# Altium schematic symbol library WCAP-ATUL.SchLib: 122 symbols (part 2 of 3)
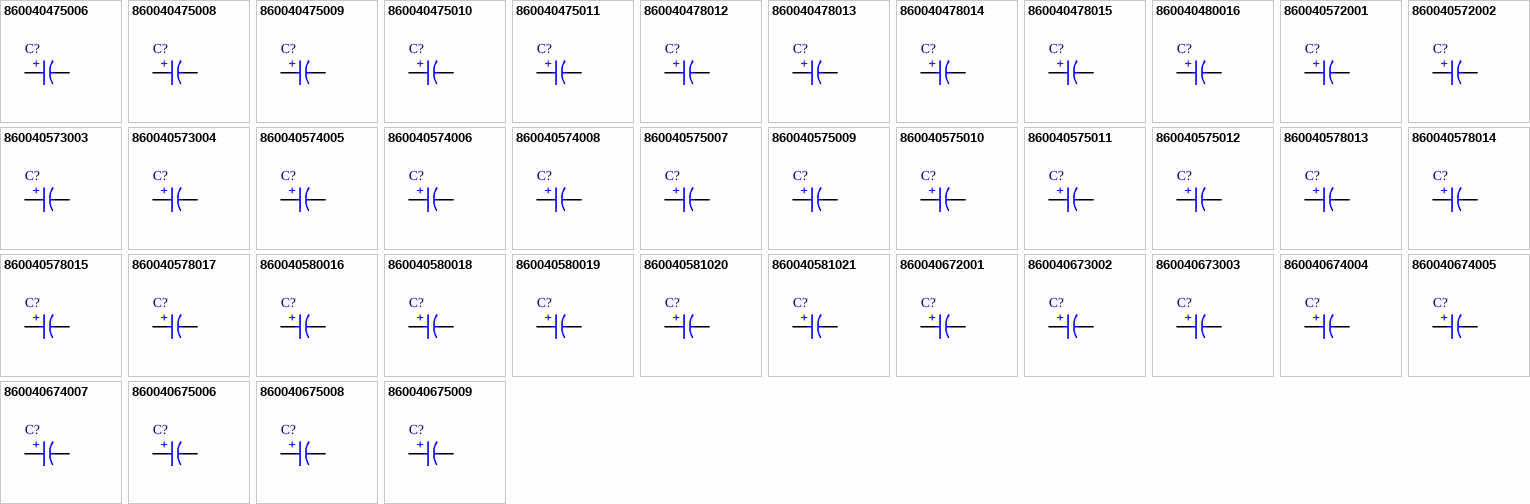
[diagram p4: symbols 860040475006 to 860040675009]

## 860040574005
designator C?, comment 150µF  (value not drawn)
WCAP-ATUL Aluminum Electrolytic Capacitor, Radial, THT, 8mm x 11.5mm, 150µF, 35V; Manufacturer Part Number: 860040574005; Manufacturer: Wurth Elektronik; Capacitance Tolerance: 20%; Dissipation Factor: 12%; Endurance: 7000h; Leakage Current: 52.5µA; Ripple Current: 680mA; Category: Aluminum Electrolytic Capacitors; Match Code: WCAP-ATUL; ComponentLink1Description: Website Link; ComponentLink1URL: https://www.we-online.com/redexpert/article/860040574005?ad; ComponentLink2Description: Datasheet Link; ComponentLink2URL: https://www.we-online.com/redexpert/spec/860040574005?ad; Mount: Through Hole; Min Operating Temperature: -40°C; Max Operating Temperature: 105°C; Packaging: Ammo Pack; Height: 11.5mm; Diameter: 8mm; Capacitance: 150µF; Rated Voltage (DC): 35V
footprint WCAP-ATUL_D8H11.5
simulation model 860040574005_150uF
pins: 1 P, 2 N
text: +

## 860040574006
designator C?, comment 220µF  (value not drawn)
WCAP-ATUL Aluminum Electrolytic Capacitor, Radial, THT, 8mm x 16mm, 220µF, 35V; Manufacturer Part Number: 860040574006; Manufacturer: Wurth Elektronik; Capacitance Tolerance: 20%; Dissipation Factor: 12%; Endurance: 7000h; Leakage Current: 77µA; Ripple Current: 1000mA; Category: Aluminum Electrolytic Capacitors; Match Code: WCAP-ATUL; ComponentLink1Description: Website Link; ComponentLink1URL: https://www.we-online.com/redexpert/article/860040574006?ad; ComponentLink2Description: Datasheet Link; ComponentLink2URL: https://www.we-online.com/redexpert/spec/860040574006?ad; Mount: Through Hole; Min Operating Temperature: -40°C; Max Operating Temperature: 105°C; Packaging: Ammo Pack; Height: 16mm; Diameter: 8mm; Capacitance: 220µF; Rated Voltage (DC): 35V
footprint WCAP-ATUL_D8H16
simulation model 860040574006_220uF
pins: 1 P, 2 N
text: +

## 860040574008
designator C?, comment 270µF  (value not drawn)
WCAP-ATUL Aluminum Electrolytic Capacitor, Radial, THT, 8mm x 20mm, 270µF, 35V; Manufacturer Part Number: 860040574008; Manufacturer: Wurth Elektronik; Capacitance Tolerance: 20%; Dissipation Factor: 12%; Endurance: 7000h; Leakage Current: 94.5µA; Ripple Current: 1180mA; Category: Aluminum Electrolytic Capacitors; Match Code: WCAP-ATUL; ComponentLink1Description: Website Link; ComponentLink1URL: https://www.we-online.com/redexpert/article/860040574008?ad; ComponentLink2Description: Datasheet Link; ComponentLink2URL: https://www.we-online.com/redexpert/spec/860040574008?ad; Mount: Through Hole; Min Operating Temperature: -40°C; Max Operating Temperature: 105°C; Packaging: Ammo Pack; Height: 20mm; Diameter: 8mm; Capacitance: 270µF; Rated Voltage (DC): 35V
footprint WCAP-ATUL_D8H20
simulation model 860040574008_270uF
pins: 1 P, 2 N
text: +

## 860040575007
designator C?, comment 220µF  (value not drawn)
WCAP-ATUL Aluminum Electrolytic Capacitor, Radial, THT, 10mm x 12.5mm, 220µF, 35V; Manufacturer Part Number: 860040575007; Manufacturer: Wurth Elektronik; Capacitance Tolerance: 20%; Dissipation Factor: 12%; Endurance: 7000h; Leakage Current: 77µA; Ripple Current: 1060mA; Category: Aluminum Electrolytic Capacitors; Match Code: WCAP-ATUL; ComponentLink1Description: Website Link; ComponentLink1URL: https://www.we-online.com/redexpert/article/860040575007?ad; ComponentLink2Description: Datasheet Link; ComponentLink2URL: https://www.we-online.com/redexpert/spec/860040575007?ad; Mount: Through Hole; Min Operating Temperature: -40°C; Max Operating Temperature: 105°C; Packaging: Ammo Pack; Height: 12.5mm; Diameter: 10mm; Capacitance: 220µF; Rated Voltage (DC): 35V
footprint WCAP-ATUL_D10H12.5
simulation model 860040575007_220uF
pins: 1 P, 2 N
text: +

## 860040575009
designator C?, comment 330µF  (value not drawn)
WCAP-ATUL Aluminum Electrolytic Capacitor, Radial, THT, 10mm x 16mm, 330µF, 35V; Manufacturer Part Number: 860040575009; Manufacturer: Wurth Elektronik; Capacitance Tolerance: 20%; Dissipation Factor: 12%; Endurance: 7000h; Leakage Current: 115.5µA; Ripple Current: 1380mA; Category: Aluminum Electrolytic Capacitors; Match Code: WCAP-ATUL; ComponentLink1Description: Website Link; ComponentLink1URL: https://www.we-online.com/redexpert/article/860040575009?ad; ComponentLink2Description: Datasheet Link; ComponentLink2URL: https://www.we-online.com/redexpert/spec/860040575009?ad; Mount: Through Hole; Min Operating Temperature: -40°C; Max Operating Temperature: 105°C; Packaging: Ammo Pack; Height: 16mm; Diameter: 10mm; Capacitance: 330µF; Rated Voltage (DC): 35V
footprint WCAP-ATUL_D10H16
simulation model 860040575009_330uF
pins: 1 P, 2 N
text: +

## 860040575010
designator C?, comment 470µF  (value not drawn)
WCAP-ATUL Aluminum Electrolytic Capacitor, Radial, THT, 10mm x 20mm, 470µF, 35V; Manufacturer Part Number: 860040575010; Manufacturer: Wurth Elektronik; Capacitance Tolerance: 20%; Dissipation Factor: 12%; Endurance: 7000h; Leakage Current: 164.5µA; Ripple Current: 1800mA; Category: Aluminum Electrolytic Capacitors; Match Code: WCAP-ATUL; ComponentLink1Description: Website Link; ComponentLink1URL: https://www.we-online.com/redexpert/article/860040575010?ad; ComponentLink2Description: Datasheet Link; ComponentLink2URL: https://www.we-online.com/redexpert/spec/860040575010?ad; Mount: Through Hole; Min Operating Temperature: -40°C; Max Operating Temperature: 105°C; Packaging: Ammo Pack; Height: 20mm; Diameter: 10mm; Capacitance: 470µF; Rated Voltage (DC): 35V
footprint WCAP-ATUL_D10H20
simulation model 860040575010_470uF
pins: 1 P, 2 N
text: +

## 860040575011
designator C?, comment 560µF  (value not drawn)
WCAP-ATUL Aluminum Electrolytic Capacitor, Radial, THT, 10mm x 25mm, 560µF, 35V; Manufacturer Part Number: 860040575011; Manufacturer: Wurth Elektronik; Capacitance Tolerance: 20%; Dissipation Factor: 12%; Endurance: 7000h; Leakage Current: 196µA; Ripple Current: 1900mA; Category: Aluminum Electrolytic Capacitors; Match Code: WCAP-ATUL; ComponentLink1Description: Website Link; ComponentLink1URL: https://www.we-online.com/redexpert/article/860040575011?ad; ComponentLink2Description: Datasheet Link; ComponentLink2URL: https://www.we-online.com/redexpert/spec/860040575011?ad; Mount: Through Hole; Min Operating Temperature: -40°C; Max Operating Temperature: 105°C; Packaging: Ammo Pack; Height: 25mm; Diameter: 10mm; Capacitance: 560µF; Rated Voltage (DC): 35V
footprint WCAP-ATUL_D10H25
simulation model 860040575011_560uF
pins: 1 P, 2 N
text: +

## 860040575012
designator C?, comment 680µF  (value not drawn)
WCAP-ATUL Aluminum Electrolytic Capacitor, Radial, THT, 10mm x 30mm, 680µF, 35V; Manufacturer Part Number: 860040575012; Manufacturer: Wurth Elektronik; Capacitance Tolerance: 20%; Dissipation Factor: 12%; Endurance: 7000h; Leakage Current: 238µA; Ripple Current: 2000mA; Category: Aluminum Electrolytic Capacitors; Match Code: WCAP-ATUL; ComponentLink1Description: Website Link; ComponentLink1URL: https://www.we-online.com/redexpert/article/860040575012?ad; ComponentLink2Description: Datasheet Link; ComponentLink2URL: https://www.we-online.com/redexpert/spec/860040575012?ad; Mount: Through Hole; Min Operating Temperature: -40°C; Max Operating Temperature: 105°C; Packaging: Ammo Pack; Height: 30mm; Diameter: 10mm; Capacitance: 680µF; Rated Voltage (DC): 35V
footprint WCAP-ATUL_D10H30
simulation model 860040575012_680uF
pins: 1 P, 2 N
text: +

## 860040578013
designator C?, comment 680µF  (value not drawn)
WCAP-ATUL Aluminum Electrolytic Capacitor, Radial, THT, 13mm x 20mm, 680µF, 35V; Manufacturer Part Number: 860040578013; Manufacturer: Wurth Elektronik; Capacitance Tolerance: 20%; Dissipation Factor: 12%; Endurance: 10000h; Leakage Current: 238µA; Ripple Current: 2100mA; Category: Aluminum Electrolytic Capacitors; Match Code: WCAP-ATUL; ComponentLink1Description: Website Link; ComponentLink1URL: https://www.we-online.com/redexpert/article/860040578013?ad; ComponentLink2Description: Datasheet Link; ComponentLink2URL: https://www.we-online.com/redexpert/spec/860040578013?ad; Mount: Through Hole; Min Operating Temperature: -40°C; Max Operating Temperature: 105°C; Packaging: Ammo Pack; Height: 20mm; Diameter: 13mm; Capacitance: 680µF; Rated Voltage (DC): 35V
footprint WCAP-ATUL_D13H20
simulation model 860040578013_680uF
pins: 1 P, 2 N
text: +

## 860040578014
designator C?, comment 1000µF  (value not drawn)
WCAP-ATUL Aluminum Electrolytic Capacitor, Radial, THT, 13mm x 25mm, 1000µF, 35V; Manufacturer Part Number: 860040578014; Manufacturer: Wurth Elektronik; Capacitance Tolerance: 20%; Dissipation Factor: 12%; Endurance: 10000h; Leakage Current: 350µA; Ripple Current: 2400mA; Category: Aluminum Electrolytic Capacitors; Match Code: WCAP-ATUL; ComponentLink1Description: Website Link; ComponentLink1URL: https://www.we-online.com/redexpert/article/860040578014?ad; ComponentLink2Description: Datasheet Link; ComponentLink2URL: https://www.we-online.com/redexpert/spec/860040578014?ad; Mount: Through Hole; Min Operating Temperature: -40°C; Max Operating Temperature: 105°C; Packaging: Ammo Pack; Height: 25mm; Diameter: 13mm; Capacitance: 1000µF; Rated Voltage (DC): 35V
footprint WCAP-ATUL_D13H25
simulation model 860040578014_1mF
pins: 1 P, 2 N
text: +

## 860040578015
designator C?, comment 1200µF  (value not drawn)
WCAP-ATUL Aluminum Electrolytic Capacitor, Radial, THT, 13mm x 30mm, 1200µF, 35V; Manufacturer Part Number: 860040578015; Manufacturer: Wurth Elektronik; Capacitance Tolerance: 20%; Dissipation Factor: 12%; Endurance: 10000h; Leakage Current: 420µA; Ripple Current: 2800mA; Category: Aluminum Electrolytic Capacitors; Match Code: WCAP-ATUL; ComponentLink1Description: Website Link; ComponentLink1URL: https://www.we-online.com/redexpert/article/860040578015?ad; ComponentLink2Description: Datasheet Link; ComponentLink2URL: https://www.we-online.com/redexpert/spec/860040578015?ad; Mount: Through Hole; Min Operating Temperature: -40°C; Max Operating Temperature: 105°C; Packaging: Ammo Pack; Height: 30mm; Diameter: 13mm; Capacitance: 1200µF; Rated Voltage (DC): 35V
footprint WCAP-ATUL_D13H30
simulation model 860040578015_1.2mF
pins: 1 P, 2 N
text: +

## 860040578017
designator C?, comment 1500µF  (value not drawn)
WCAP-ATUL Aluminum Electrolytic Capacitor, Radial, THT, 13mm x 35mm, 1500µF, 35V; Manufacturer Part Number: 860040578017; Manufacturer: Wurth Elektronik; Capacitance Tolerance: 20%; Dissipation Factor: 12%; Endurance: 10000h; Leakage Current: 525µA; Ripple Current: 3000mA; Category: Aluminum Electrolytic Capacitors; Match Code: WCAP-ATUL; ComponentLink1Description: Website Link; ComponentLink1URL: https://www.we-online.com/redexpert/article/860040578017?ad; ComponentLink2Description: Datasheet Link; ComponentLink2URL: https://www.we-online.com/redexpert/spec/860040578017?ad; Mount: Through Hole; Min Operating Temperature: -40°C; Max Operating Temperature: 105°C; Packaging: Ammo Pack; Height: 35mm; Diameter: 13mm; Capacitance: 1500µF; Rated Voltage (DC): 35V
footprint WCAP-ATUL_D13H35
simulation model 860040578017_1.5mF
pins: 1 P, 2 N
text: +

## 860040580016
designator C?, comment 1200µF  (value not drawn)
WCAP-ATUL Aluminum Electrolytic Capacitor, Radial, THT, 16mm x 21mm, 1200µF, 35V; Manufacturer Part Number: 860040580016; Manufacturer: Wurth Elektronik; Capacitance Tolerance: 20%; Dissipation Factor: 12%; Endurance: 10000h; Leakage Current: 420µA; Ripple Current: 2800mA; Category: Aluminum Electrolytic Capacitors; Match Code: WCAP-ATUL; ComponentLink1Description: Website Link; ComponentLink1URL: https://www.we-online.com/redexpert/article/860040580016?ad; ComponentLink2Description: Datasheet Link; ComponentLink2URL: https://www.we-online.com/redexpert/spec/860040580016?ad; Mount: Through Hole; Min Operating Temperature: -40°C; Max Operating Temperature: 105°C; Packaging: Ammo Pack; Height: 21mm; Diameter: 16mm; Capacitance: 1200µF; Rated Voltage (DC): 35V
footprint WCAP-ATUL_D16H21
simulation model 860040580016_1.2mF
pins: 1 P, 2 N
text: +

## 860040580018
designator C?, comment 1800µF  (value not drawn)
WCAP-ATUL Aluminum Electrolytic Capacitor, Radial, THT, 16mm x 25mm, 1800µF, 35V; Manufacturer Part Number: 860040580018; Manufacturer: Wurth Elektronik; Capacitance Tolerance: 20%; Dissipation Factor: 12%; Endurance: 10000h; Leakage Current: 630µA; Ripple Current: 2800mA; Category: Aluminum Electrolytic Capacitors; Match Code: WCAP-ATUL; ComponentLink1Description: Website Link; ComponentLink1URL: https://www.we-online.com/redexpert/article/860040580018?ad; ComponentLink2Description: Datasheet Link; ComponentLink2URL: https://www.we-online.com/redexpert/spec/860040580018?ad; Mount: Through Hole; Min Operating Temperature: -40°C; Max Operating Temperature: 105°C; Packaging: Ammo Pack; Height: 25mm; Diameter: 16mm; Capacitance: 1800µF; Rated Voltage (DC): 35V
footprint WCAP-ATUL_D16H25
simulation model 860040580018_1.8mF
pins: 1 P, 2 N
text: +

## 860040580019
designator C?, comment 2700µF  (value not drawn)
WCAP-ATUL Aluminum Electrolytic Capacitor, Radial, THT, 16mm x 35.5mm, 2700µF, 35V; Manufacturer Part Number: 860040580019; Manufacturer: Wurth Elektronik; Capacitance Tolerance: 20%; Dissipation Factor: 12%; Endurance: 10000h; Leakage Current: 945µA; Ripple Current: 3500mA; Category: Aluminum Electrolytic Capacitors; Match Code: WCAP-ATUL; ComponentLink1Description: Website Link; ComponentLink1URL: https://www.we-online.com/redexpert/article/860040580019?ad; ComponentLink2Description: Datasheet Link; ComponentLink2URL: https://www.we-online.com/redexpert/spec/860040580019?ad; Mount: Through Hole; Min Operating Temperature: -40°C; Max Operating Temperature: 105°C; Packaging: Ammo Pack; Height: 35.5mm; Diameter: 16mm; Capacitance: 2700µF; Rated Voltage (DC): 35V
footprint WCAP-ATUL_D16H35.5
simulation model 860040580019_2.7mF
pins: 1 P, 2 N
text: +

## 860040581020
designator C?, comment 2700µF  (value not drawn)
WCAP-ATUL Aluminum Electrolytic Capacitor, Radial, THT, 18mm x 31.5mm, 2700µF, 35V; Manufacturer Part Number: 860040581020; Manufacturer: Wurth Elektronik; Capacitance Tolerance: 20%; Dissipation Factor: 12%; Endurance: 10000h; Leakage Current: 945µA; Ripple Current: 3850mA; Category: Aluminum Electrolytic Capacitors; Match Code: WCAP-ATUL; ComponentLink1Description: Website Link; ComponentLink1URL: https://www.we-online.com/redexpert/article/860040581020?ad; ComponentLink2Description: Datasheet Link; ComponentLink2URL: https://www.we-online.com/redexpert/spec/860040581020?ad; Mount: Through Hole; Min Operating Temperature: -40°C; Max Operating Temperature: 105°C; Packaging: Ammo Pack; Height: 31.5mm; Diameter: 18mm; Capacitance: 2700µF; Rated Voltage (DC): 35V
footprint WCAP-ATUL_D18H31.5
simulation model 860040581020_2.7mF
pins: 1 P, 2 N
text: +

## 860040581021
designator C?, comment 4700µF  (value not drawn)
WCAP-ATUL Aluminum Electrolytic Capacitor, Radial, THT, 18mm x 41mm, 4700µF, 35V; Manufacturer Part Number: 860040581021; Manufacturer: Wurth Elektronik; Capacitance Tolerance: 20%; Dissipation Factor: 18%; Endurance: 10000h; Leakage Current: 1645µA; Ripple Current: 5350mA; Category: Aluminum Electrolytic Capacitors; Match Code: WCAP-ATUL; ComponentLink1Description: Website Link; ComponentLink1URL: https://www.we-online.com/redexpert/article/860040581021?ad; ComponentLink2Description: Datasheet Link; ComponentLink2URL: https://www.we-online.com/redexpert/spec/860040581021?ad; Mount: Through Hole; Min Operating Temperature: -40°C; Max Operating Temperature: 105°C; Packaging: Ammo Pack; Height: 41mm; Diameter: 18mm; Capacitance: 4700µF; Rated Voltage (DC): 35V
footprint WCAP-ATUL_D18H41
simulation model 860040581021_4.7mF
pins: 1 P, 2 N
text: +

## 860040672001
designator C?, comment 22µF  (value not drawn)
WCAP-ATUL Aluminum Electrolytic Capacitor, Radial, THT, 5mm x 11mm, 22µF, 50V; Manufacturer Part Number: 860040672001; Manufacturer: Wurth Elektronik; Capacitance Tolerance: 20%; Dissipation Factor: 10%; Endurance: 5000h; Leakage Current: 11µA; Ripple Current: 220mA; Category: Aluminum Electrolytic Capacitors; Match Code: WCAP-ATUL; ComponentLink1Description: Website Link; ComponentLink1URL: https://www.we-online.com/redexpert/article/860040672001?ad; ComponentLink2Description: Datasheet Link; ComponentLink2URL: https://www.we-online.com/redexpert/spec/860040672001?ad; Mount: Through Hole; Min Operating Temperature: -40°C; Max Operating Temperature: 105°C; Packaging: Ammo Pack; Height: 11mm; Diameter: 5mm; Capacitance: 22µF; Rated Voltage (DC): 50V
footprint WCAP-ATUL_D5H11
simulation model 860040672001_22uF
pins: 1 P, 2 N
text: +

## 860040673002
designator C?, comment 47µF  (value not drawn)
WCAP-ATUL Aluminum Electrolytic Capacitor, Radial, THT, 6.3mm x 11mm, 47µF, 50V; Manufacturer Part Number: 860040673002; Manufacturer: Wurth Elektronik; Capacitance Tolerance: 20%; Dissipation Factor: 10%; Endurance: 5000h; Leakage Current: 23.5µA; Ripple Current: 260mA; Category: Aluminum Electrolytic Capacitors; Match Code: WCAP-ATUL; ComponentLink1Description: Website Link; ComponentLink1URL: https://www.we-online.com/redexpert/article/860040673002?ad; ComponentLink2Description: Datasheet Link; ComponentLink2URL: https://www.we-online.com/redexpert/spec/860040673002?ad; Mount: Through Hole; Min Operating Temperature: -40°C; Max Operating Temperature: 105°C; Packaging: Ammo Pack; Height: 11mm; Diameter: 6.3mm; Capacitance: 47µF; Rated Voltage (DC): 50V
footprint WCAP-ATUL_D6.3H11
simulation model 860040673002_47uF
pins: 1 P, 2 N
text: +

## 860040673003
designator C?, comment 56µF  (value not drawn)
WCAP-ATUL Aluminum Electrolytic Capacitor, Radial, THT, 6.3mm x 11mm, 56µF, 50V; Manufacturer Part Number: 860040673003; Manufacturer: Wurth Elektronik; Capacitance Tolerance: 20%; Dissipation Factor: 10%; Endurance: 5000h; Leakage Current: 28µA; Ripple Current: 300mA; Category: Aluminum Electrolytic Capacitors; Match Code: WCAP-ATUL; ComponentLink1Description: Website Link; ComponentLink1URL: https://www.we-online.com/redexpert/article/860040673003?ad; ComponentLink2Description: Datasheet Link; ComponentLink2URL: https://www.we-online.com/redexpert/spec/860040673003?ad; Mount: Through Hole; Min Operating Temperature: -40°C; Max Operating Temperature: 105°C; Packaging: Ammo Pack; Height: 11mm; Diameter: 6.3mm; Capacitance: 56µF; Rated Voltage (DC): 50V
footprint WCAP-ATUL_D6.3H11
simulation model 860040673003_56uF
pins: 1 P, 2 N
text: +

## 860040674004
designator C?, comment 100µF  (value not drawn)
WCAP-ATUL Aluminum Electrolytic Capacitor, Radial, THT, 8mm x 11.5mm, 100µF, 50V; Manufacturer Part Number: 860040674004; Manufacturer: Wurth Elektronik; Capacitance Tolerance: 20%; Dissipation Factor: 10%; Endurance: 7000h; Leakage Current: 50µA; Ripple Current: 680mA; Category: Aluminum Electrolytic Capacitors; Match Code: WCAP-ATUL; ComponentLink1Description: Website Link; ComponentLink1URL: https://www.we-online.com/redexpert/article/860040674004?ad; ComponentLink2Description: Datasheet Link; ComponentLink2URL: https://www.we-online.com/redexpert/spec/860040674004?ad; Mount: Through Hole; Min Operating Temperature: -40°C; Max Operating Temperature: 105°C; Packaging: Ammo Pack; Height: 11.5mm; Diameter: 8mm; Capacitance: 100µF; Rated Voltage (DC): 50V
footprint WCAP-ATUL_D8H11.5
simulation model 860040674004_100uF
pins: 1 P, 2 N
text: +

## 860040674005
designator C?, comment 120µF  (value not drawn)
WCAP-ATUL Aluminum Electrolytic Capacitor, Radial, THT, 8mm x 16mm, 120µF, 50V; Manufacturer Part Number: 860040674005; Manufacturer: Wurth Elektronik; Capacitance Tolerance: 20%; Dissipation Factor: 10%; Endurance: 7000h; Leakage Current: 60µA; Ripple Current: 760mA; Category: Aluminum Electrolytic Capacitors; Match Code: WCAP-ATUL; ComponentLink1Description: Website Link; ComponentLink1URL: https://www.we-online.com/redexpert/article/860040674005?ad; ComponentLink2Description: Datasheet Link; ComponentLink2URL: https://www.we-online.com/redexpert/spec/860040674005?ad; Mount: Through Hole; Min Operating Temperature: -40°C; Max Operating Temperature: 105°C; Packaging: Ammo Pack; Height: 16mm; Diameter: 8mm; Capacitance: 120µF; Rated Voltage (DC): 50V
footprint WCAP-ATUL_D8H16
simulation model 860040674005_120uF
pins: 1 P, 2 N
text: +

## 860040674007
designator C?, comment 180µF  (value not drawn)
WCAP-ATUL Aluminum Electrolytic Capacitor, Radial, THT, 8mm x 20mm, 180µF, 50V; Manufacturer Part Number: 860040674007; Manufacturer: Wurth Elektronik; Capacitance Tolerance: 20%; Dissipation Factor: 10%; Endurance: 7000h; Leakage Current: 90µA; Ripple Current: 1000mA; Category: Aluminum Electrolytic Capacitors; Match Code: WCAP-ATUL; ComponentLink1Description: Website Link; ComponentLink1URL: https://www.we-online.com/redexpert/article/860040674007?ad; ComponentLink2Description: Datasheet Link; ComponentLink2URL: https://www.we-online.com/redexpert/spec/860040674007?ad; Mount: Through Hole; Min Operating Temperature: -40°C; Max Operating Temperature: 105°C; Packaging: Ammo Pack; Height: 20mm; Diameter: 8mm; Capacitance: 180µF; Rated Voltage (DC): 50V
footprint WCAP-ATUL_D8H20
simulation model 860040674007_180uF
pins: 1 P, 2 N
text: +

## 860040675006
designator C?, comment 150µF  (value not drawn)
WCAP-ATUL Aluminum Electrolytic Capacitor, Radial, THT, 10mm x 12.5mm, 150µF, 50V; Manufacturer Part Number: 860040675006; Manufacturer: Wurth Elektronik; Capacitance Tolerance: 20%; Dissipation Factor: 10%; Endurance: 7000h; Leakage Current: 75µA; Ripple Current: 800mA; Category: Aluminum Electrolytic Capacitors; Match Code: WCAP-ATUL; ComponentLink1Description: Website Link; ComponentLink1URL: https://www.we-online.com/redexpert/article/860040675006?ad; ComponentLink2Description: Datasheet Link; ComponentLink2URL: https://www.we-online.com/redexpert/spec/860040675006?ad; Mount: Through Hole; Min Operating Temperature: -40°C; Max Operating Temperature: 105°C; Packaging: Ammo Pack; Height: 12.5mm; Diameter: 10mm; Capacitance: 150µF; Rated Voltage (DC): 50V
footprint WCAP-ATUL_D10H12.5
simulation model 860040675006_150uF
pins: 1 P, 2 N
text: +

## 860040675008
designator C?, comment 220µF  (value not drawn)
WCAP-ATUL Aluminum Electrolytic Capacitor, Radial, THT, 10mm x 16mm, 220µF, 50V; Manufacturer Part Number: 860040675008; Manufacturer: Wurth Elektronik; Capacitance Tolerance: 20%; Dissipation Factor: 10%; Endurance: 7000h; Leakage Current: 110µA; Ripple Current: 1300mA; Category: Aluminum Electrolytic Capacitors; Match Code: WCAP-ATUL; ComponentLink1Description: Website Link; ComponentLink1URL: https://www.we-online.com/redexpert/article/860040675008?ad; ComponentLink2Description: Datasheet Link; ComponentLink2URL: https://www.we-online.com/redexpert/spec/860040675008?ad; Mount: Through Hole; Min Operating Temperature: -40°C; Max Operating Temperature: 105°C; Packaging: Ammo Pack; Height: 16mm; Diameter: 10mm; Capacitance: 220µF; Rated Voltage (DC): 50V
footprint WCAP-ATUL_D10H16
simulation model 860040675008_220uF
pins: 1 P, 2 N
text: +

## 860040675009
designator C?, comment 270µF  (value not drawn)
WCAP-ATUL Aluminum Electrolytic Capacitor, Radial, THT, 10mm x 20mm, 270µF, 50V; Manufacturer Part Number: 860040675009; Manufacturer: Wurth Elektronik; Capacitance Tolerance: 20%; Dissipation Factor: 10%; Endurance: 7000h; Leakage Current: 135µA; Ripple Current: 1350mA; Category: Aluminum Electrolytic Capacitors; Match Code: WCAP-ATUL; ComponentLink1Description: Website Link; ComponentLink1URL: https://www.we-online.com/redexpert/article/860040675009?ad; ComponentLink2Description: Datasheet Link; ComponentLink2URL: https://www.we-online.com/redexpert/spec/860040675009?ad; Mount: Through Hole; Min Operating Temperature: -40°C; Max Operating Temperature: 105°C; Packaging: Ammo Pack; Height: 20mm; Diameter: 10mm; Capacitance: 270µF; Rated Voltage (DC): 50V
footprint WCAP-ATUL_D10H20
simulation model 860040675009_270uF
pins: 1 P, 2 N
text: +

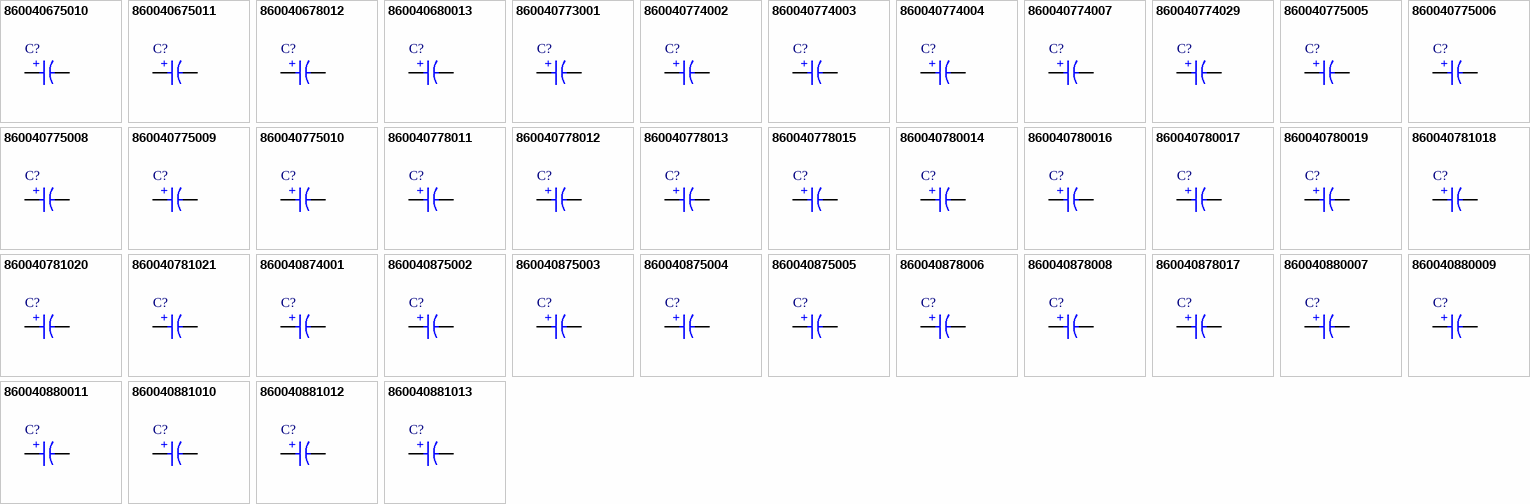
[diagram p2: symbols 860040675010 to 860040881013]

## 860040675010
designator C?, comment 330µF  (value not drawn)
WCAP-ATUL Aluminum Electrolytic Capacitor, Radial, THT, 10mm x 25mm, 330µF, 50V; Manufacturer Part Number: 860040675010; Manufacturer: Wurth Elektronik; Capacitance Tolerance: 20%; Dissipation Factor: 10%; Endurance: 7000h; Leakage Current: 165µA; Ripple Current: 1600mA; Category: Aluminum Electrolytic Capacitors; Match Code: WCAP-ATUL; ComponentLink1Description: Website Link; ComponentLink1URL: https://www.we-online.com/redexpert/article/860040675010?ad; ComponentLink2Description: Datasheet Link; ComponentLink2URL: https://www.we-online.com/redexpert/spec/860040675010?ad; Mount: Through Hole; Min Operating Temperature: -40°C; Max Operating Temperature: 105°C; Packaging: Ammo Pack; Height: 25mm; Diameter: 10mm; Capacitance: 330µF; Rated Voltage (DC): 50V
footprint WCAP-ATUL_D10H25
simulation model 860040675010_330uF
pins: 1 P, 2 N
text: +

## 860040675011
designator C?, comment 470µF  (value not drawn)
WCAP-ATUL Aluminum Electrolytic Capacitor, Radial, THT, 10mm x 30mm, 470µF, 50V; Manufacturer Part Number: 860040675011; Manufacturer: Wurth Elektronik; Capacitance Tolerance: 20%; Dissipation Factor: 10%; Endurance: 7000h; Leakage Current: 235µA; Ripple Current: 1800mA; Category: Aluminum Electrolytic Capacitors; Match Code: WCAP-ATUL; ComponentLink1Description: Website Link; ComponentLink1URL: https://www.we-online.com/redexpert/article/860040675011?ad; ComponentLink2Description: Datasheet Link; ComponentLink2URL: https://www.we-online.com/redexpert/spec/860040675011?ad; Mount: Through Hole; Min Operating Temperature: -40°C; Max Operating Temperature: 105°C; Packaging: Ammo Pack; Height: 30mm; Diameter: 10mm; Capacitance: 470µF; Rated Voltage (DC): 50V
footprint WCAP-ATUL_D10H30
simulation model 860040675011_470uF
pins: 1 P, 2 N
text: +

## 860040678012
designator C?, comment 560µF  (value not drawn)
WCAP-ATUL Aluminum Electrolytic Capacitor, Radial, THT, 13mm x 25mm, 560µF, 50V; Manufacturer Part Number: 860040678012; Manufacturer: Wurth Elektronik; Capacitance Tolerance: 20%; Dissipation Factor: 10%; Endurance: 10000h; Leakage Current: 280µA; Ripple Current: 1950mA; Category: Aluminum Electrolytic Capacitors; Match Code: WCAP-ATUL; ComponentLink1Description: Website Link; ComponentLink1URL: https://www.we-online.com/redexpert/article/860040678012?ad; ComponentLink2Description: Datasheet Link; ComponentLink2URL: https://www.we-online.com/redexpert/spec/860040678012?ad; Mount: Through Hole; Min Operating Temperature: -40°C; Max Operating Temperature: 105°C; Packaging: Ammo Pack; Height: 25mm; Diameter: 13mm; Capacitance: 560µF; Rated Voltage (DC): 50V
footprint WCAP-ATUL_D13H25
simulation model 860040678012_560uF
pins: 1 P, 2 N
text: +

## 860040680013
designator C?, comment 1200µF  (value not drawn)
WCAP-ATUL Aluminum Electrolytic Capacitor, Radial, THT, 16mm x 31.5mm, 1200µF, 50V; Manufacturer Part Number: 860040680013; Manufacturer: Wurth Elektronik; Capacitance Tolerance: 20%; Dissipation Factor: 10%; Endurance: 10000h; Leakage Current: 600µA; Ripple Current: 2870mA; Category: Aluminum Electrolytic Capacitors; Match Code: WCAP-ATUL; ComponentLink1Description: Website Link; ComponentLink1URL: https://www.we-online.com/redexpert/article/860040680013?ad; ComponentLink2Description: Datasheet Link; ComponentLink2URL: https://www.we-online.com/redexpert/spec/860040680013?ad; Mount: Through Hole; Min Operating Temperature: -40°C; Max Operating Temperature: 105°C; Packaging: Ammo Pack; Height: 31.5mm; Diameter: 16mm; Capacitance: 1200µF; Rated Voltage (DC): 50V
footprint WCAP-ATUL_D16H31.5
simulation model 860040680013_1.2mF
pins: 1 P, 2 N
text: +

## 860040773001
designator C?, comment 33µF  (value not drawn)
WCAP-ATUL Aluminum Electrolytic Capacitor, Radial, THT, 6.3mm x 11mm, 33µF, 63V; Manufacturer Part Number: 860040773001; Manufacturer: Wurth Elektronik; Capacitance Tolerance: 20%; Dissipation Factor: 9%; Endurance: 5000h; Leakage Current: 20.79µA; Ripple Current: 260mA; Category: Aluminum Electrolytic Capacitors; Match Code: WCAP-ATUL; ComponentLink1Description: Website Link; ComponentLink1URL: https://www.we-online.com/redexpert/article/860040773001?ad; ComponentLink2Description: Datasheet Link; ComponentLink2URL: https://www.we-online.com/redexpert/spec/860040773001?ad; Mount: Through Hole; Min Operating Temperature: -40°C; Max Operating Temperature: 105°C; Packaging: Ammo Pack; Height: 11mm; Diameter: 6.3mm; Capacitance: 33µF; Rated Voltage (DC): 63V
footprint WCAP-ATUL_D6.3H11
simulation model 860040773001_33uF
pins: 1 P, 2 N
text: +

## 860040774002
designator C?, comment 47µF  (value not drawn)
WCAP-ATUL Aluminum Electrolytic Capacitor, Radial, THT, 8mm x 11.5mm, 47µF, 63V; Manufacturer Part Number: 860040774002; Manufacturer: Wurth Elektronik; Capacitance Tolerance: 20%; Dissipation Factor: 9%; Endurance: 7000h; Leakage Current: 29.61µA; Ripple Current: 360mA; Category: Aluminum Electrolytic Capacitors; Match Code: WCAP-ATUL; ComponentLink1Description: Website Link; ComponentLink1URL: https://www.we-online.com/redexpert/article/860040774002?ad; ComponentLink2Description: Datasheet Link; ComponentLink2URL: https://www.we-online.com/redexpert/spec/860040774002?ad; Mount: Through Hole; Min Operating Temperature: -40°C; Max Operating Temperature: 105°C; Packaging: Ammo Pack; Height: 11.5mm; Diameter: 8mm; Capacitance: 47µF; Rated Voltage (DC): 63V
footprint WCAP-ATUL_D8H11.5
simulation model 860040774002_47uF
pins: 1 P, 2 N
text: +

## 860040774003
designator C?, comment 56µF  (value not drawn)
WCAP-ATUL Aluminum Electrolytic Capacitor, Radial, THT, 8mm x 11.5mm, 56µF, 63V; Manufacturer Part Number: 860040774003; Manufacturer: Wurth Elektronik; Capacitance Tolerance: 20%; Dissipation Factor: 9%; Endurance: 7000h; Leakage Current: 35.28µA; Ripple Current: 380mA; Category: Aluminum Electrolytic Capacitors; Match Code: WCAP-ATUL; ComponentLink1Description: Website Link; ComponentLink1URL: https://www.we-online.com/redexpert/article/860040774003?ad; ComponentLink2Description: Datasheet Link; ComponentLink2URL: https://www.we-online.com/redexpert/spec/860040774003?ad; Mount: Through Hole; Min Operating Temperature: -40°C; Max Operating Temperature: 105°C; Packaging: Ammo Pack; Height: 11.5mm; Diameter: 8mm; Capacitance: 56µF; Rated Voltage (DC): 63V
footprint WCAP-ATUL_D8H11.5
simulation model 860040774003_56uF
pins: 1 P, 2 N
text: +

## 860040774004
designator C?, comment 82µF  (value not drawn)
WCAP-ATUL Aluminum Electrolytic Capacitor, Radial, THT, 8mm x 16mm, 82µF, 63V; Manufacturer Part Number: 860040774004; Manufacturer: Wurth Elektronik; Capacitance Tolerance: 20%; Dissipation Factor: 9%; Endurance: 7000h; Leakage Current: 51.66µA; Ripple Current: 460mA; Category: Aluminum Electrolytic Capacitors; Match Code: WCAP-ATUL; ComponentLink1Description: Website Link; ComponentLink1URL: https://www.we-online.com/redexpert/article/860040774004?ad; ComponentLink2Description: Datasheet Link; ComponentLink2URL: https://www.we-online.com/redexpert/spec/860040774004?ad; Mount: Through Hole; Min Operating Temperature: -40°C; Max Operating Temperature: 105°C; Packaging: Ammo Pack; Height: 16mm; Diameter: 8mm; Capacitance: 82µF; Rated Voltage (DC): 63V
footprint WCAP-ATUL_D8H16
simulation model 860040774004_82uF
pins: 1 P, 2 N
text: +

## 860040774007
designator C?, comment 120µF  (value not drawn)
WCAP-ATUL Aluminum Electrolytic Capacitor, Radial, THT, 8mm x 20mm, 120µF, 63V; Manufacturer Part Number: 860040774007; Manufacturer: Wurth Elektronik; Capacitance Tolerance: 20%; Dissipation Factor: 9%; Endurance: 7000h; Leakage Current: 75.6µA; Ripple Current: 700mA; Category: Aluminum Electrolytic Capacitors; Match Code: WCAP-ATUL; ComponentLink1Description: Website Link; ComponentLink1URL: https://www.we-online.com/redexpert/article/860040774007?ad; ComponentLink2Description: Datasheet Link; ComponentLink2URL: https://www.we-online.com/redexpert/spec/860040774007?ad; Mount: Through Hole; Min Operating Temperature: -40°C; Max Operating Temperature: 105°C; Packaging: Ammo Pack; Height: 20mm; Diameter: 8mm; Capacitance: 120µF; Rated Voltage (DC): 63V
footprint WCAP-ATUL_D8H20
simulation model 860040774007_120uF
pins: 1 P, 2 N
text: +

## 860040774029
designator C?, comment 100µF  (value not drawn)
WCAP-ATUL Aluminum Electrolytic Capacitor, Radial, THT, 8mm x 16mm, 100µF, 63V; Manufacturer Part Number: 860040774029; Manufacturer: Wurth Elektronik; Capacitance Tolerance: 20%; Dissipation Factor: 9%; Endurance: 9000h; Leakage Current: 63µA; Ripple Current: 990mA; Category: Aluminum Electrolytic Capacitors; Match Code: WCAP-ATUL; ComponentLink1Description: Website Link; ComponentLink1URL: https://www.we-online.com/redexpert/article/860040774029?ad; ComponentLink2Description: Datasheet Link; ComponentLink2URL: https://www.we-online.com/redexpert/spec/860040774029?ad; Mount: Through Hole; Min Operating Temperature: -40°C; Max Operating Temperature: 105°C; Packaging: Bulk; Height: 16mm; Diameter: 8mm; Capacitance: 100µF; Rated Voltage (DC): 63V
footprint WCAP-ATUL_D8H16
simulation model 860040774029_100uF
pins: 1 P, 2 N
text: +

## 860040775005
designator C?, comment 82µF  (value not drawn)
WCAP-ATUL Aluminum Electrolytic Capacitor, Radial, THT, 10mm x 12.5mm, 82µF, 63V; Manufacturer Part Number: 860040775005; Manufacturer: Wurth Elektronik; Capacitance Tolerance: 20%; Dissipation Factor: 9%; Endurance: 7000h; Leakage Current: 51.66µA; Ripple Current: 500mA; Category: Aluminum Electrolytic Capacitors; Match Code: WCAP-ATUL; ComponentLink1Description: Website Link; ComponentLink1URL: https://www.we-online.com/redexpert/article/860040775005?ad; ComponentLink2Description: Datasheet Link; ComponentLink2URL: https://www.we-online.com/redexpert/spec/860040775005?ad; Mount: Through Hole; Min Operating Temperature: -40°C; Max Operating Temperature: 105°C; Packaging: Ammo Pack; Height: 12.5mm; Diameter: 10mm; Capacitance: 82µF; Rated Voltage (DC): 63V
footprint WCAP-ATUL_D10H12.5
simulation model 860040775005_82uF
pins: 1 P, 2 N
text: +

## 860040775006
designator C?, comment 100µF  (value not drawn)
WCAP-ATUL Aluminum Electrolytic Capacitor, Radial, THT, 10mm x 12.5mm, 100µF, 63V; Manufacturer Part Number: 860040775006; Manufacturer: Wurth Elektronik; Capacitance Tolerance: 20%; Dissipation Factor: 9%; Endurance: 7000h; Leakage Current: 63µA; Ripple Current: 640mA; Category: Aluminum Electrolytic Capacitors; Match Code: WCAP-ATUL; ComponentLink1Description: Website Link; ComponentLink1URL: https://www.we-online.com/redexpert/article/860040775006?ad; ComponentLink2Description: Datasheet Link; ComponentLink2URL: https://www.we-online.com/redexpert/spec/860040775006?ad; Mount: Through Hole; Min Operating Temperature: -40°C; Max Operating Temperature: 105°C; Packaging: Ammo Pack; Height: 12.5mm; Diameter: 10mm; Capacitance: 100µF; Rated Voltage (DC): 63V
footprint WCAP-ATUL_D10H12.5
simulation model 860040775006_100uF
pins: 1 P, 2 N
text: +

## 860040775008
designator C?, comment 120µF  (value not drawn)
WCAP-ATUL Aluminum Electrolytic Capacitor, Radial, THT, 10mm x 16mm, 120µF, 63V; Manufacturer Part Number: 860040775008; Manufacturer: Wurth Elektronik; Capacitance Tolerance: 20%; Dissipation Factor: 9%; Endurance: 7000h; Leakage Current: 75.6µA; Ripple Current: 760mA; Category: Aluminum Electrolytic Capacitors; Match Code: WCAP-ATUL; ComponentLink1Description: Website Link; ComponentLink1URL: https://www.we-online.com/redexpert/article/860040775008?ad; ComponentLink2Description: Datasheet Link; ComponentLink2URL: https://www.we-online.com/redexpert/spec/860040775008?ad; Mount: Through Hole; Min Operating Temperature: -40°C; Max Operating Temperature: 105°C; Packaging: Ammo Pack; Height: 16mm; Diameter: 10mm; Capacitance: 120µF; Rated Voltage (DC): 63V
footprint WCAP-ATUL_D10H16
simulation model 860040775008_120uF
pins: 1 P, 2 N
text: +

## 860040775009
designator C?, comment 180µF  (value not drawn)
WCAP-ATUL Aluminum Electrolytic Capacitor, Radial, THT, 10mm x 20mm, 180µF, 63V; Manufacturer Part Number: 860040775009; Manufacturer: Wurth Elektronik; Capacitance Tolerance: 20%; Dissipation Factor: 9%; Endurance: 7000h; Leakage Current: 113.4µA; Ripple Current: 880mA; Category: Aluminum Electrolytic Capacitors; Match Code: WCAP-ATUL; ComponentLink1Description: Website Link; ComponentLink1URL: https://www.we-online.com/redexpert/article/860040775009?ad; ComponentLink2Description: Datasheet Link; ComponentLink2URL: https://www.we-online.com/redexpert/spec/860040775009?ad; Mount: Through Hole; Min Operating Temperature: -40°C; Max Operating Temperature: 105°C; Packaging: Ammo Pack; Height: 20mm; Diameter: 10mm; Capacitance: 180µF; Rated Voltage (DC): 63V
footprint WCAP-ATUL_D10H20
simulation model 860040775009_180uF
pins: 1 P, 2 N
text: +

## 860040775010
designator C?, comment 220µF  (value not drawn)
WCAP-ATUL Aluminum Electrolytic Capacitor, Radial, THT, 10mm x 25mm, 220µF, 63V; Manufacturer Part Number: 860040775010; Manufacturer: Wurth Elektronik; Capacitance Tolerance: 20%; Dissipation Factor: 9%; Endurance: 7000h; Leakage Current: 138.6µA; Ripple Current: 1100mA; Category: Aluminum Electrolytic Capacitors; Match Code: WCAP-ATUL; ComponentLink1Description: Website Link; ComponentLink1URL: https://www.we-online.com/redexpert/article/860040775010?ad; ComponentLink2Description: Datasheet Link; ComponentLink2URL: https://www.we-online.com/redexpert/spec/860040775010?ad; Mount: Through Hole; Min Operating Temperature: -40°C; Max Operating Temperature: 105°C; Packaging: Ammo Pack; Height: 25mm; Diameter: 10mm; Capacitance: 220µF; Rated Voltage (DC): 63V
footprint WCAP-ATUL_D10H25
simulation model 860040775010_220uF
pins: 1 P, 2 N
text: +

## 860040778011
designator C?, comment 270µF  (value not drawn)
WCAP-ATUL Aluminum Electrolytic Capacitor, Radial, THT, 13mm x 20mm, 270µF, 63V; Manufacturer Part Number: 860040778011; Manufacturer: Wurth Elektronik; Capacitance Tolerance: 20%; Dissipation Factor: 9%; Endurance: 10000h; Leakage Current: 170.1µA; Ripple Current: 1200mA; Category: Aluminum Electrolytic Capacitors; Match Code: WCAP-ATUL; ComponentLink1Description: Website Link; ComponentLink1URL: https://www.we-online.com/redexpert/article/860040778011?ad; ComponentLink2Description: Datasheet Link; ComponentLink2URL: https://www.we-online.com/redexpert/spec/860040778011?ad; Mount: Through Hole; Min Operating Temperature: -40°C; Max Operating Temperature: 105°C; Packaging: Ammo Pack; Height: 20mm; Diameter: 13mm; Capacitance: 270µF; Rated Voltage (DC): 63V
footprint WCAP-ATUL_D13H20
simulation model 860040778011_270uF
pins: 1 P, 2 N
text: +

## 860040778012
designator C?, comment 330µF  (value not drawn)
WCAP-ATUL Aluminum Electrolytic Capacitor, Radial, THT, 13mm x 25mm, 330µF, 63V; Manufacturer Part Number: 860040778012; Manufacturer: Wurth Elektronik; Capacitance Tolerance: 20%; Dissipation Factor: 9%; Endurance: 10000h; Leakage Current: 207.9µA; Ripple Current: 1600mA; Category: Aluminum Electrolytic Capacitors; Match Code: WCAP-ATUL; ComponentLink1Description: Website Link; ComponentLink1URL: https://www.we-online.com/redexpert/article/860040778012?ad; ComponentLink2Description: Datasheet Link; ComponentLink2URL: https://www.we-online.com/redexpert/spec/860040778012?ad; Mount: Through Hole; Min Operating Temperature: -40°C; Max Operating Temperature: 105°C; Packaging: Ammo Pack; Height: 25mm; Diameter: 13mm; Capacitance: 330µF; Rated Voltage (DC): 63V
footprint WCAP-ATUL_D13H25
simulation model 860040778012_330uF
pins: 1 P, 2 N
text: +

## 860040778013
designator C?, comment 470µF  (value not drawn)
WCAP-ATUL Aluminum Electrolytic Capacitor, Radial, THT, 13mm x 30mm, 470µF, 63V; Manufacturer Part Number: 860040778013; Manufacturer: Wurth Elektronik; Capacitance Tolerance: 20%; Dissipation Factor: 9%; Endurance: 10000h; Leakage Current: 296.1µA; Ripple Current: 1800mA; Category: Aluminum Electrolytic Capacitors; Match Code: WCAP-ATUL; ComponentLink1Description: Website Link; ComponentLink1URL: https://www.we-online.com/redexpert/article/860040778013?ad; ComponentLink2Description: Datasheet Link; ComponentLink2URL: https://www.we-online.com/redexpert/spec/860040778013?ad; Mount: Through Hole; Min Operating Temperature: -40°C; Max Operating Temperature: 105°C; Packaging: Ammo Pack; Height: 30mm; Diameter: 13mm; Capacitance: 470µF; Rated Voltage (DC): 63V
footprint WCAP-ATUL_D13H30
simulation model 860040778013_470uF
pins: 1 P, 2 N
text: +

## 860040778015
designator C?, comment 680µF  (value not drawn)
WCAP-ATUL Aluminum Electrolytic Capacitor, Radial, THT, 13mm x 40mm, 680µF, 63V; Manufacturer Part Number: 860040778015; Manufacturer: Wurth Elektronik; Capacitance Tolerance: 20%; Dissipation Factor: 9%; Endurance: 10000h; Leakage Current: 428.4µA; Ripple Current: 2200mA; Category: Aluminum Electrolytic Capacitors; Match Code: WCAP-ATUL; ComponentLink1Description: Website Link; ComponentLink1URL: https://www.we-online.com/redexpert/article/860040778015?ad; ComponentLink2Description: Datasheet Link; ComponentLink2URL: https://www.we-online.com/redexpert/spec/860040778015?ad; Mount: Through Hole; Min Operating Temperature: -40°C; Max Operating Temperature: 105°C; Packaging: Ammo Pack; Height: 40mm; Diameter: 13mm; Capacitance: 680µF; Rated Voltage (DC): 63V
footprint WCAP-ATUL_D13H40
simulation model 860040778015_680uF
pins: 1 P, 2 N
text: +

## 860040780014
designator C?, comment 560µF  (value not drawn)
WCAP-ATUL Aluminum Electrolytic Capacitor, Radial, THT, 16mm x 25mm, 560µF, 63V; Manufacturer Part Number: 860040780014; Manufacturer: Wurth Elektronik; Capacitance Tolerance: 20%; Dissipation Factor: 9%; Endurance: 10000h; Leakage Current: 352.8µA; Ripple Current: 2000mA; Category: Aluminum Electrolytic Capacitors; Match Code: WCAP-ATUL; ComponentLink1Description: Website Link; ComponentLink1URL: https://www.we-online.com/redexpert/article/860040780014?ad; ComponentLink2Description: Datasheet Link; ComponentLink2URL: https://www.we-online.com/redexpert/spec/860040780014?ad; Mount: Through Hole; Min Operating Temperature: -40°C; Max Operating Temperature: 105°C; Packaging: Ammo Pack; Height: 25mm; Diameter: 16mm; Capacitance: 560µF; Rated Voltage (DC): 63V
footprint WCAP-ATUL_D16H25
simulation model 860040780014_560uF
pins: 1 P, 2 N
text: +

## 860040780016
designator C?, comment 820µF  (value not drawn)
WCAP-ATUL Aluminum Electrolytic Capacitor, Radial, THT, 16mm x 31.5mm, 820µF, 63V; Manufacturer Part Number: 860040780016; Manufacturer: Wurth Elektronik; Capacitance Tolerance: 20%; Dissipation Factor: 9%; Endurance: 10000h; Leakage Current: 516.6µA; Ripple Current: 2400mA; Category: Aluminum Electrolytic Capacitors; Match Code: WCAP-ATUL; ComponentLink1Description: Website Link; ComponentLink1URL: https://www.we-online.com/redexpert/article/860040780016?ad; ComponentLink2Description: Datasheet Link; ComponentLink2URL: https://www.we-online.com/redexpert/spec/860040780016?ad; Mount: Through Hole; Min Operating Temperature: -40°C; Max Operating Temperature: 105°C; Packaging: Ammo Pack; Height: 31.5mm; Diameter: 16mm; Capacitance: 820µF; Rated Voltage (DC): 63V
footprint WCAP-ATUL_D16H31.5
simulation model 860040780016_820uF
pins: 1 P, 2 N
text: +

## 860040780017
designator C?, comment 1000µF  (value not drawn)
WCAP-ATUL Aluminum Electrolytic Capacitor, Radial, THT, 16mm x 35.5mm, 1000µF, 63V; Manufacturer Part Number: 860040780017; Manufacturer: Wurth Elektronik; Capacitance Tolerance: 20%; Dissipation Factor: 9%; Endurance: 10000h; Leakage Current: 630µA; Ripple Current: 2500mA; Category: Aluminum Electrolytic Capacitors; Match Code: WCAP-ATUL; ComponentLink1Description: Website Link; ComponentLink1URL: https://www.we-online.com/redexpert/article/860040780017?ad; ComponentLink2Description: Datasheet Link; ComponentLink2URL: https://www.we-online.com/redexpert/spec/860040780017?ad; Mount: Through Hole; Min Operating Temperature: -40°C; Max Operating Temperature: 105°C; Packaging: Ammo Pack; Height: 35.5mm; Diameter: 16mm; Capacitance: 1000µF; Rated Voltage (DC): 63V
footprint WCAP-ATUL_D16H35.5
simulation model 860040780017_1mF
pins: 1 P, 2 N
text: +

## 860040780019
designator C?, comment 1200µF  (value not drawn)
WCAP-ATUL Aluminum Electrolytic Capacitor, Radial, THT, 16mm x 41mm, 1200µF, 63V; Manufacturer Part Number: 860040780019; Manufacturer: Wurth Elektronik; Capacitance Tolerance: 20%; Dissipation Factor: 9%; Endurance: 10000h; Leakage Current: 756µA; Ripple Current: 2920mA; Category: Aluminum Electrolytic Capacitors; Match Code: WCAP-ATUL; ComponentLink1Description: Website Link; ComponentLink1URL: https://www.we-online.com/redexpert/article/860040780019?ad; ComponentLink2Description: Datasheet Link; ComponentLink2URL: https://www.we-online.com/redexpert/spec/860040780019?ad; Mount: Through Hole; Min Operating Temperature: -40°C; Max Operating Temperature: 105°C; Packaging: Ammo Pack; Height: 41mm; Diameter: 16mm; Capacitance: 1200µF; Rated Voltage (DC): 63V
footprint WCAP-ATUL_D16H41
simulation model 860040780019_1.2mF
pins: 1 P, 2 N
text: +

## 860040781018
designator C?, comment 1000µF  (value not drawn)
WCAP-ATUL Aluminum Electrolytic Capacitor, Radial, THT, 18mm x 31.5mm, 1000µF, 63V; Manufacturer Part Number: 860040781018; Manufacturer: Wurth Elektronik; Capacitance Tolerance: 20%; Dissipation Factor: 9%; Endurance: 10000h; Leakage Current: 630µA; Ripple Current: 2800mA; Category: Aluminum Electrolytic Capacitors; Match Code: WCAP-ATUL; ComponentLink1Description: Website Link; ComponentLink1URL: https://www.we-online.com/redexpert/article/860040781018?ad; ComponentLink2Description: Datasheet Link; ComponentLink2URL: https://www.we-online.com/redexpert/spec/860040781018?ad; Mount: Through Hole; Min Operating Temperature: -40°C; Max Operating Temperature: 105°C; Packaging: Ammo Pack; Height: 31.5mm; Diameter: 18mm; Capacitance: 1000µF; Rated Voltage (DC): 63V
footprint WCAP-ATUL_D18H31.5
simulation model 860040781018_1mF
pins: 1 P, 2 N
text: +

## 860040781020
designator C?, comment 1200µF  (value not drawn)
WCAP-ATUL Aluminum Electrolytic Capacitor, Radial, THT, 18mm x 35.5mm, 1200µF, 63V; Manufacturer Part Number: 860040781020; Manufacturer: Wurth Elektronik; Capacitance Tolerance: 20%; Dissipation Factor: 9%; Endurance: 10000h; Leakage Current: 756µA; Ripple Current: 3000mA; Category: Aluminum Electrolytic Capacitors; Match Code: WCAP-ATUL; ComponentLink1Description: Website Link; ComponentLink1URL: https://www.we-online.com/redexpert/article/860040781020?ad; ComponentLink2Description: Datasheet Link; ComponentLink2URL: https://www.we-online.com/redexpert/spec/860040781020?ad; Mount: Through Hole; Min Operating Temperature: -40°C; Max Operating Temperature: 105°C; Packaging: Ammo Pack; Height: 35.5mm; Diameter: 18mm; Capacitance: 1200µF; Rated Voltage (DC): 63V
footprint WCAP-ATUL_D18H35.5
simulation model 860040781020_1.2mF
pins: 1 P, 2 N
text: +

## 860040781021
designator C?, comment 1500µF  (value not drawn)
WCAP-ATUL Aluminum Electrolytic Capacitor, Radial, THT, 18mm x 41mm, 1500µF, 63V; Manufacturer Part Number: 860040781021; Manufacturer: Wurth Elektronik; Capacitance Tolerance: 20%; Dissipation Factor: 9%; Endurance: 10000h; Leakage Current: 945µA; Ripple Current: 3200mA; Category: Aluminum Electrolytic Capacitors; Match Code: WCAP-ATUL; ComponentLink1Description: Website Link; ComponentLink1URL: https://www.we-online.com/redexpert/article/860040781021?ad; ComponentLink2Description: Datasheet Link; ComponentLink2URL: https://www.we-online.com/redexpert/spec/860040781021?ad; Mount: Through Hole; Min Operating Temperature: -40°C; Max Operating Temperature: 105°C; Packaging: Ammo Pack; Height: 41mm; Diameter: 18mm; Capacitance: 1500µF; Rated Voltage (DC): 63V
footprint WCAP-ATUL_D18H41
simulation model 860040781021_1.5mF
pins: 1 P, 2 N
text: +

## 860040874001
designator C?, comment 27µF  (value not drawn)
WCAP-ATUL Aluminum Electrolytic Capacitor, Radial, THT, 8mm x 11.5mm, 27µF, 100V; Manufacturer Part Number: 860040874001; Manufacturer: Wurth Elektronik; Capacitance Tolerance: 20%; Dissipation Factor: 9%; Endurance: 7000h; Leakage Current: 27µA; Ripple Current: 300mA; Category: Aluminum Electrolytic Capacitors; Match Code: WCAP-ATUL; ComponentLink1Description: Website Link; ComponentLink1URL: https://www.we-online.com/redexpert/article/860040874001?ad; ComponentLink2Description: Datasheet Link; ComponentLink2URL: https://www.we-online.com/redexpert/spec/860040874001?ad; Mount: Through Hole; Min Operating Temperature: -40°C; Max Operating Temperature: 105°C; Packaging: Ammo Pack; Height: 11.5mm; Diameter: 8mm; Capacitance: 27µF; Rated Voltage (DC): 100V
footprint WCAP-ATUL_D8H11.5
simulation model 860040874001_27uF
pins: 1 P, 2 N
text: +

## 860040875002
designator C?, comment 47µF  (value not drawn)
WCAP-ATUL Aluminum Electrolytic Capacitor, Radial, THT, 10mm x 12.5mm, 47µF, 100V; Manufacturer Part Number: 860040875002; Manufacturer: Wurth Elektronik; Capacitance Tolerance: 20%; Dissipation Factor: 9%; Endurance: 7000h; Leakage Current: 47µA; Ripple Current: 400mA; Category: Aluminum Electrolytic Capacitors; Match Code: WCAP-ATUL; ComponentLink1Description: Website Link; ComponentLink1URL: https://www.we-online.com/redexpert/article/860040875002?ad; ComponentLink2Description: Datasheet Link; ComponentLink2URL: https://www.we-online.com/redexpert/spec/860040875002?ad; Mount: Through Hole; Min Operating Temperature: -40°C; Max Operating Temperature: 105°C; Packaging: Ammo Pack; Height: 12.5mm; Diameter: 10mm; Capacitance: 47µF; Rated Voltage (DC): 100V
footprint WCAP-ATUL_D10H12.5
simulation model 860040875002_47uF
pins: 1 P, 2 N
text: +